# Altium schematic symbol library 2020-07-14_10-12-07.SchLib: 2 symbols
Pins are listed as number, name and electrical type; pins without a type are passive.

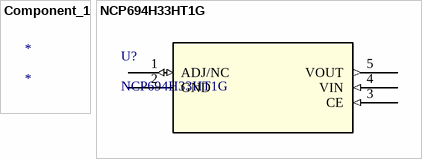
[diagram p0: symbols Component_1 to NCP694H33HT1G]

## Component_1
designator *

## NCP694H33HT1G
designator U?
No Description Available; SourceLibrary: ON_Semiconductor_2018-03-21; Built_By: EMA_Jessica; Vendor: ON Semiconductor; Copyright: Copyright (C) 2016 Accelerated Designs. All rights reserved; Manufacturer_Part_Number: NCP694H33HT1G; RefDes: RefDes; Type: DEV
footprint SOT89-5_ONS
pins: 1 ADJ/NC (io), 2 GND (power), 3 CE (in), 4 VIN (in), 5 VOUT (out)